# EAGLE library part LED_MATRIX_8X8 (library led_matrix_master_lib)
Bicolor 8x8 led matrix RED+GREEN
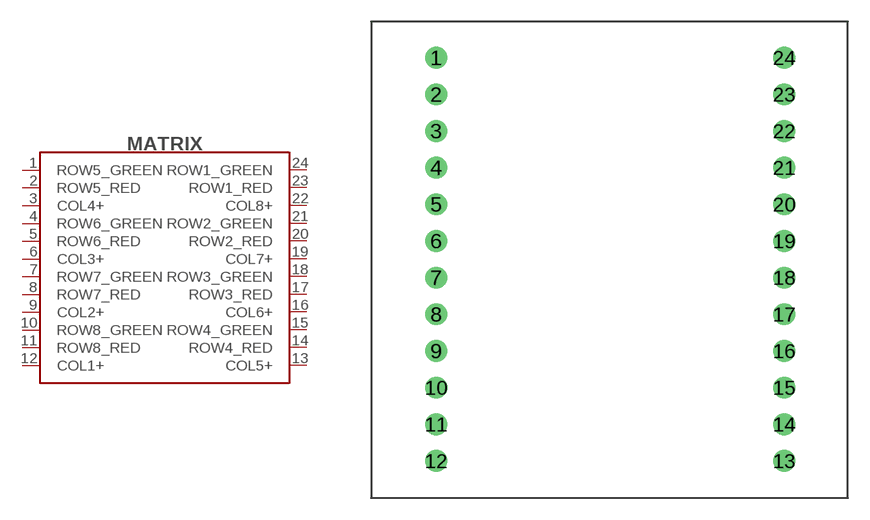
[diagram p0: symbol with the pads of LED_MATRIX_8X8; footprint LED_MATRIX_8X8]

Designator prefix MATRIX

## LED_MATRIX_8X8  [LED_MATRIX_8X8]
1  ROW5_GREEN
2  ROW5_RED
3  COL4+
4  ROW6_GREEN
5  ROW6_RED
6  COL3+
7  ROW7_GREEN
8  ROW7_RED
9  COL2+
10  ROW8_GREEN
11  ROW8_RED
12  COL1+
13  COL5+
14  ROW4_RED
15  ROW4_GREEN
16  COL6+
17  ROW3_RED
18  ROW3_GREEN
19  COL7+
20  ROW2_RED
21  ROW2_GREEN
22  COL8+
23  ROW1_RED
24  ROW1_GREEN

## Footprint LED_MATRIX_8X8 (pad centres in mm)
drill 1: 1 -12,14; 2 -12,11.46; 3 -12,8.92; 4 -12,6.38; 5 -12,3.84; 6 -12,1.3; 7 -12,-1.24; 8 -12,-3.78; 9 -12,-6.32; 10 -12,-8.86; 11 -12,-11.4; 12 -12,-13.94; 13 12.1,-13.94; 14 12.1,-11.4; 15 12.1,-8.86; 16 12.1,-6.32; 17 12.1,-3.78; 18 12.1,-1.24; 19 12.1,1.3; 20 12.1,3.84; 21 12.1,6.38; 22 12.1,8.92; 23 12.1,11.46; 24 12.1,14